# EAGLE library part BTM7752G (library BB8)
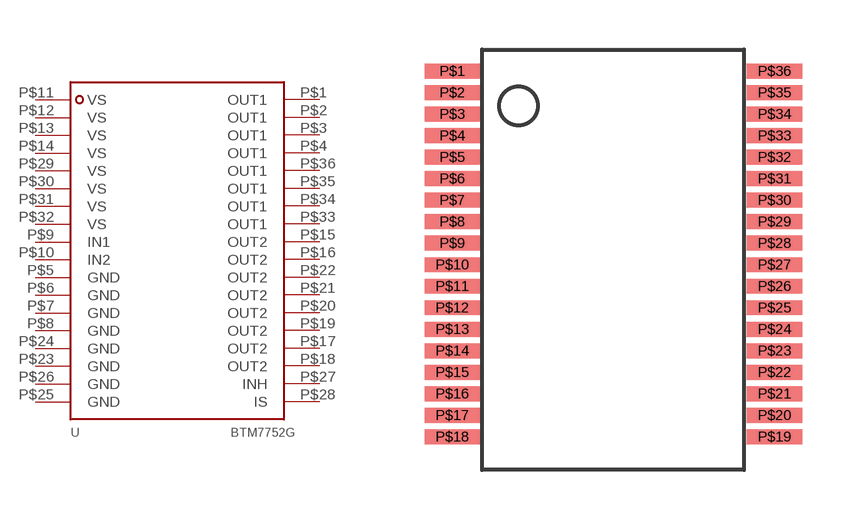
[diagram p0: symbol with the pads of 36-BSSOP; footprint 36-BSSOP]

Designator prefix U

## BTM7752G  [36-BSSOP]
P$1  OUT1  out
P$2  OUT1  out
P$3  OUT1  out
P$4  OUT1  out
P$5  GND  pwr
P$6  GND  pwr
P$7  GND  pwr
P$8  GND  pwr
P$9  IN1  in
P$10  IN2  in
P$11  VS  pwr
P$12  VS  pwr
P$13  VS  pwr
P$14  VS  pwr
P$15  OUT2  out
P$16  OUT2  out
P$17  OUT2  out
P$18  OUT2  out
P$19  OUT2  out
P$20  OUT2  out
P$21  OUT2  out
P$22  OUT2  out
P$23  GND  pwr
P$24  GND  pwr
P$25  GND  pwr
P$26  GND  pwr
P$27  INH
P$28  IS
P$29  VS  pwr
P$30  VS  pwr
P$31  VS  pwr
P$32  VS  pwr
P$33  OUT1  out
P$34  OUT1  out
P$35  OUT1  out
P$36  OUT1  out

## Footprint 36-BSSOP (pad centres in mm)
smd 1.67 x 0.45: P$1 0,11.05; P$2 0,10.4; P$3 0,9.75; P$4 0,9.1; P$5 0,8.45; P$6 0,7.8; P$7 0,7.15; P$8 0,6.5; P$9 0,5.85; P$10 0,5.2; P$11 0,4.55; P$12 0,3.9; P$13 0,3.25; P$14 0,2.6; P$15 0,1.95; P$16 0,1.3; P$17 0,0.65; P$18 0,0; P$19 9.73,0; P$20 9.73,0.65; P$21 9.73,1.3; P$22 9.73,1.95; P$23 9.73,2.6; P$24 9.73,3.25; P$25 9.73,3.9; P$26 9.73,4.55; P$27 9.73,5.2; P$28 9.73,5.85; P$29 9.73,6.5; P$30 9.73,7.15; P$31 9.73,7.8; P$32 9.73,8.45; P$33 9.73,9.1; P$34 9.73,9.75; P$35 9.73,10.4; P$36 9.73,11.05